# EAGLE library part SB (library divers)
Binary/BCD switch
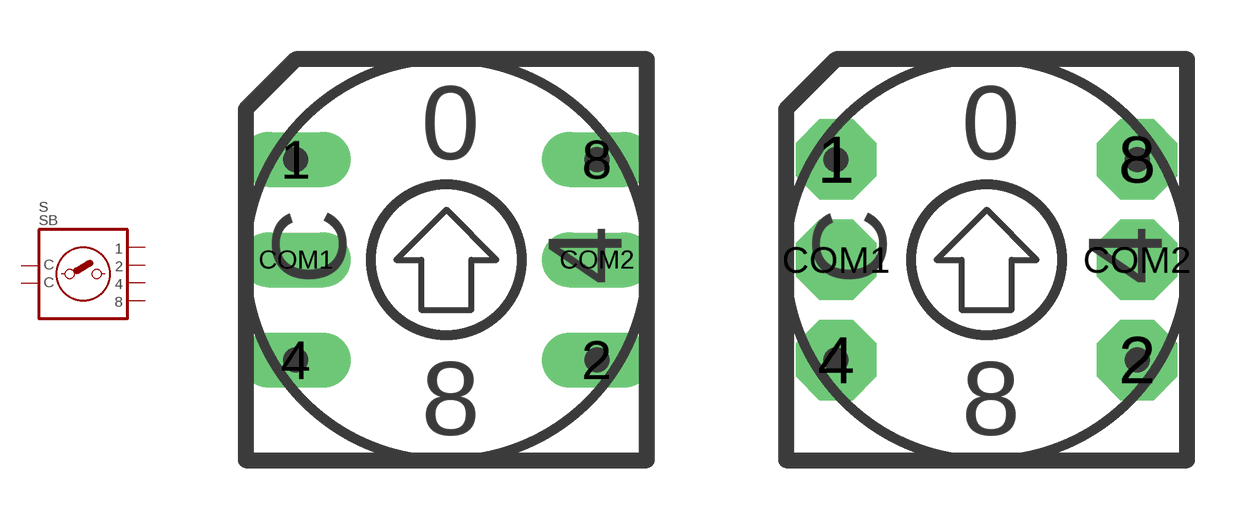
[diagram p2: symbol with the pads of SB01L; footprints SB01L, SB01N]

Designator prefix S

## SB01L  [SB01L]
1  1
2  2
4  4
8  8
COM1  COM
COM2  COM

## SBN  [SB01N]
Pads as for SB01L

## SBR  [SB01R]
Pads as for SB01L

## SB01N  [SB01N]
Pads as for SB01L

## SB01R  [SB01R]
Pads as for SB01L

## SBL  [SB01L]
Pads as for SB01L

## SB01  [SB01L]
Pads as for SB01L

## SB  [SB01L]
Pads as for SB01L

## SB02  [SB02L]
Pads as for SB01L

## SB02L  [SB02L]
Pads as for SB01L

## SB02N  [SB02N]
Pads as for SB01L

## SB02R  [SB02R]
Pads as for SB01L

## Footprint SB01L (pad centres in mm)
Binary/BCD switch, miniature (10x10mm), long pads - OTAX KDx1x - Eledis Serie K
drill 0.813 pad 1.397 long: 1 -3.81,2.54; 2 3.81,-2.54; 4 -3.81,-2.54; 8 3.81,2.54; COM1 -3.81,0; COM2 3.81,0

## Footprint SB01N (pad centres in mm)
Binary/BCD switch, miniature (10x10mm) - OTAX KDx1x - Eledis Serie K
drill 0.813 pad 2.032 octagon: 1 -3.81,2.54; 2 3.81,-2.54; 4 -3.81,-2.54; 8 3.81,2.54; COM1 -3.81,0; COM2 3.81,0

## Footprint SB01R (pad centres in mm)
Binary/BCD switch, miniature (10x10mm), reduced pads - OTAX KDx1x - Eledis Serie K
drill 0.813 pad 1.397 square: 1 -3.81,7.62; 2 3.81,2.54; 4 -3.81,2.54; 8 3.81,7.62; COM1 -3.81,5.08; COM2 3.81,5.08

## Footprint SB02L (pad centres in mm)
Binary/BCD switch, miniature (10*12mm), angled, long pads - OTAX KDx1xH - Eledis Serie K
drill 0.813 pad 1.397 long: 1 -2.54,2.54; 2 2.54,-2.54; 4 -2.54,-2.54; 8 2.54,2.54; COM1 -2.54,0; COM2 2.54,0

## Footprint SB02N (pad centres in mm)
Binary/BCD switch, miniature (10*12mm), angled - OTAX KDx1xH - Eledis Serie K
drill 0.813 pad 2.032 octagon: 1 -2.54,2.54; 2 2.54,-2.54; 4 -2.54,-2.54; 8 2.54,2.54; COM1 -2.54,0; COM2 2.54,0

## Footprint SB02R (pad centres in mm)
Binary/BCD switch, miniature (10*12mm), angled, reduced pads - OTAX KDx1xH - Eledis Serie K
drill 0.813 pad 1.397 square: 1 -2.54,2.54; 2 2.54,-2.54; 4 -2.54,-2.54; 8 2.54,2.54; COM1 -2.54,0; COM2 2.54,0